# EAGLE library part AD5204 (library U-POT)
AD5204 [ANALOG,AD5204BRZ10] POTENTIOMETER QUAD 10K 256TAP 24SOIC
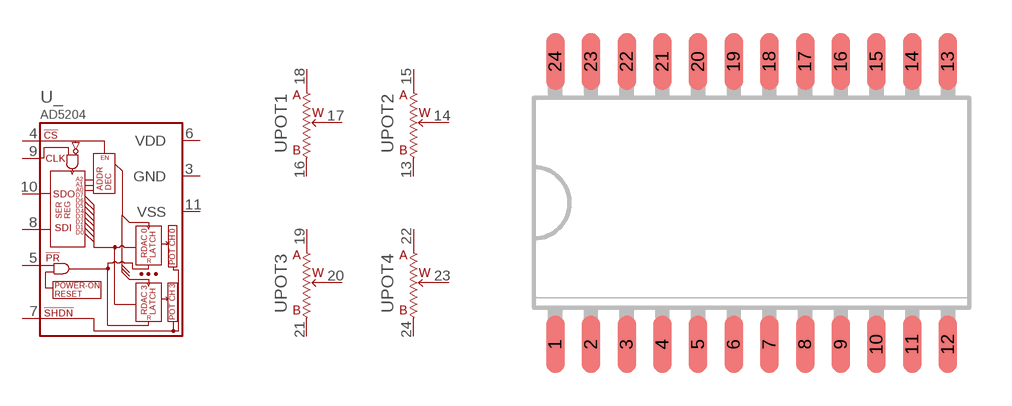
[diagram p0: symbol with the pads of 24SOIC; footprint 24SOIC]

Designator prefix U; gates _=AD5204 POT1=POT POT2=POT POT3=POT POT4=POT

## AD520424SOIC  [24SOIC]
3  _:GND  pwr
4  _:!CS  in
5  _:!PR  out
6  _:VDD  pwr
7  _:!SHDN  out
8  _:SDI  out
9  _:CLK  in
10  _:SDO  out
11  _:VSS  pwr
13  POT2:B  pas
14  POT2:W  pas
15  POT2:A  pas
16  POT1:B  pas
17  POT1:W  pas
18  POT1:A  pas
19  POT3:A  pas
20  POT3:W  pas
21  POT3:B  pas
22  POT4:A  pas
23  POT4:W  pas
24  POT4:B  pas

## Footprint 24SOIC (pad centres in mm)
24SOIC REF: NXP SOT137-1, IEC 07E05, JEDEC MS-013 verifyed also with datasheet: AD5204 [ANALOG,AD5204BRZ10] POTENTIOMETER QUAD 10K 256TAP 24SOIC
smd 0.66 x 2.032: 1 -6.985,-5.029; 2 -5.715,-5.029; 3 -4.445,-5.029; 4 -3.175,-5.029; 5 -1.905,-5.029; 6 -0.635,-5.029; 7 0.635,-5.029; 8 1.905,-5.029; 9 3.175,-5.029; 10 4.445,-5.029; 11 5.715,-5.029; 12 6.985,-5.029; 13 6.985,5.029; 14 5.715,5.029; 15 4.445,5.029; 16 3.175,5.029; 17 1.905,5.029; 18 0.635,5.029; 19 -0.635,5.029; 20 -1.905,5.029; 21 -3.175,5.029; 22 -4.445,5.029; 23 -5.715,5.029; 24 -6.985,5.029